# EAGLE library part RJ-6PIN (library ArdDisp)
RJ12 primy 6pinovy - kopie z mot-bluex.lbr 21.01.2011 z desky CB2 Bluex(Fona)
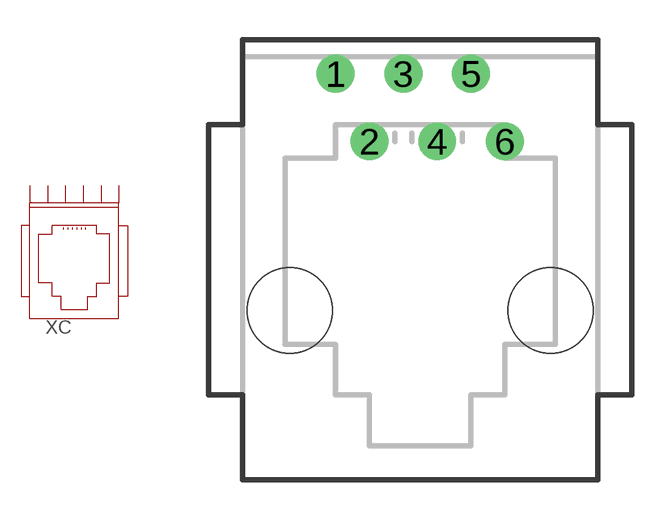
[diagram p29: symbol with the pads of RJ-6PIN; footprint RJ-6PIN]

Designator prefix XC

## RJ-6PIN  [RJ-6PIN]
1  1  pas
2  2  pas
3  3  pas
4  4  pas
5  5  pas
6  6  pas

## Footprint RJ-6PIN (pad centres in mm)
drill 0.8 pad 1.422: 1 -3.175,8.89; 2 -1.905,6.35; 3 -0.635,8.89; 4 0.635,6.35; 5 1.905,8.89; 6 3.175,6.35
hole 3.2 at -4.9,0
hole 3.2 at 4.9,0